# EAGLE library part XC95144XL_TQ144_P (library 00_DatatrakEPROMEmu)
XC95144XL_TQ144 Xilinx XC95144XL CPLD, TQ144 package Symbol pins sorted by pad number. Auto generated by make-symbol-device-package-bsdl.ulp Rev. 44 Source: XC95144XL_TQ144.bsdl
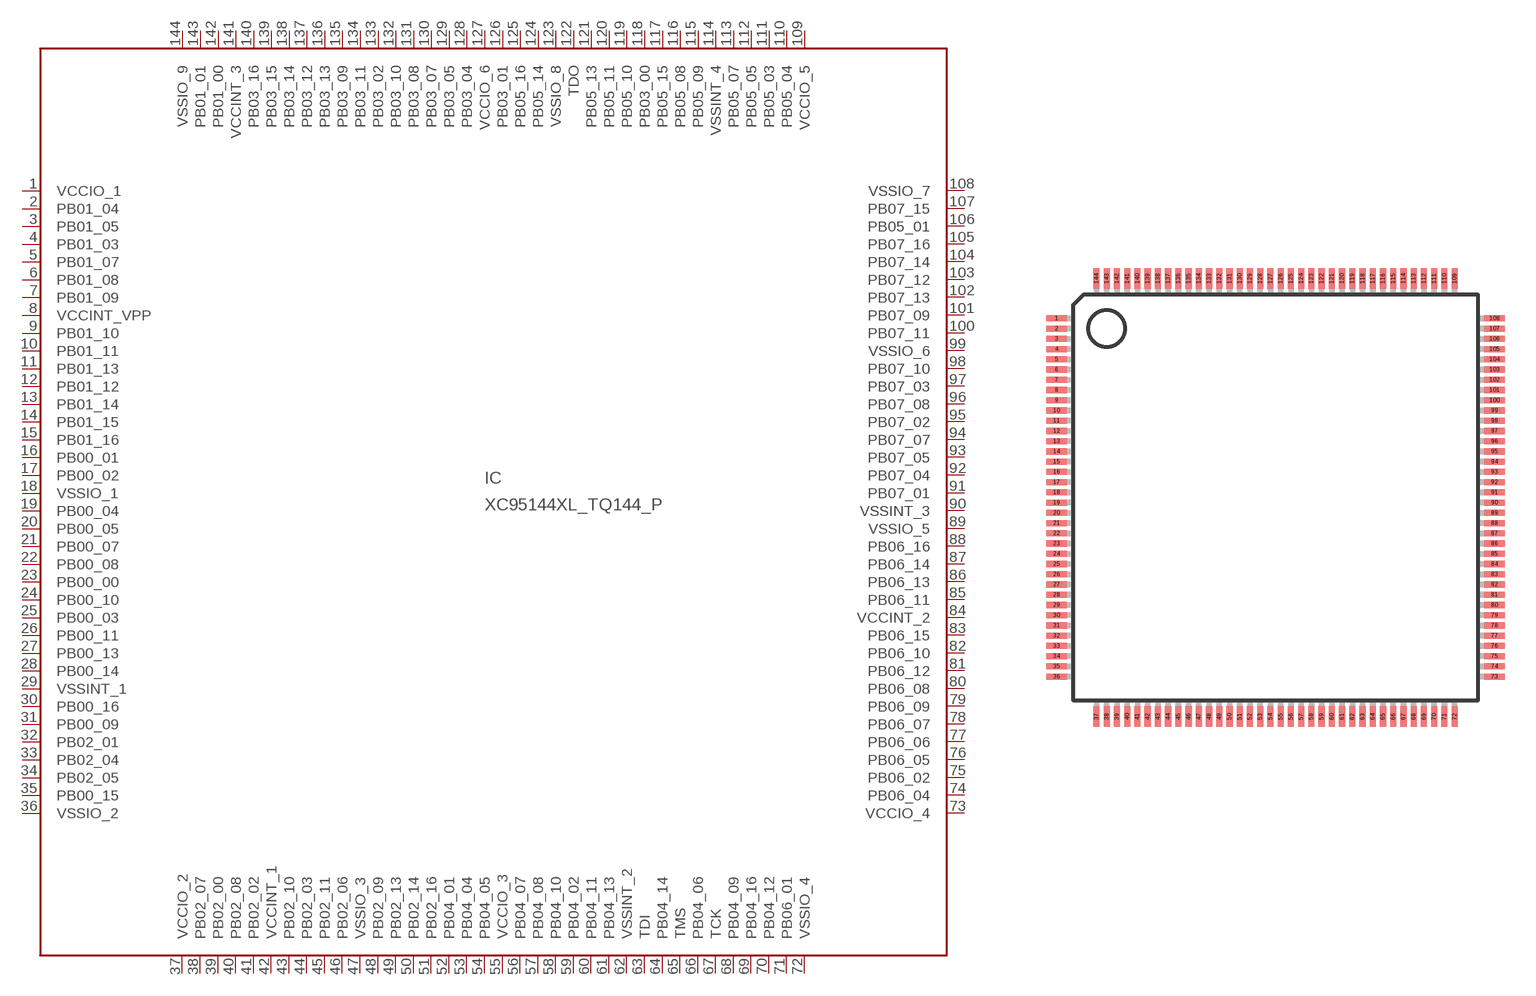
[diagram p3: symbol with the pads of TQ144; footprint TQ144]

Designator prefix IC

## XC95144XL_TQ144_P  [TQ144]
1  VCCIO_1  pas
2  PB01_04
3  PB01_05
4  PB01_03
5  PB01_07
6  PB01_08
7  PB01_09
8  VCCINT_VPP  pas
9  PB01_10
10  PB01_11
11  PB01_13
12  PB01_12
13  PB01_14
14  PB01_15
15  PB01_16
16  PB00_01
17  PB00_02
18  VSSIO_1  pas
19  PB00_04
20  PB00_05
21  PB00_07
22  PB00_08
23  PB00_00
24  PB00_10
25  PB00_03
26  PB00_11
27  PB00_13
28  PB00_14
29  VSSINT_1  pas
30  PB00_16
31  PB00_09
32  PB02_01
33  PB02_04
34  PB02_05
35  PB00_15
36  VSSIO_2  pas
37  VCCIO_2  pas
38  PB02_07
39  PB02_00
40  PB02_08
41  PB02_02
42  VCCINT_1  pas
43  PB02_10
44  PB02_03
45  PB02_11
46  PB02_06
47  VSSIO_3  pas
48  PB02_09
49  PB02_13
50  PB02_14
51  PB02_16
52  PB04_01
53  PB04_04
54  PB04_05
55  VCCIO_3  pas
56  PB04_07
57  PB04_08
58  PB04_10
59  PB04_02
60  PB04_11
61  PB04_13
62  VSSINT_2  pas
63  TDI  in
64  PB04_14
65  TMS  in
66  PB04_06
67  TCK  in
68  PB04_09
69  PB04_16
70  PB04_12
71  PB06_01
72  VSSIO_4  pas
73  VCCIO_4  pas
74  PB06_04
75  PB06_02
76  PB06_05
77  PB06_06
78  PB06_07
79  PB06_09
80  PB06_08
81  PB06_12
82  PB06_10
83  PB06_15
84  VCCINT_2  pas
85  PB06_11
86  PB06_13
87  PB06_14
88  PB06_16
89  VSSIO_5  pas
90  VSSINT_3  pas
91  PB07_01
92  PB07_04
93  PB07_05
94  PB07_07
95  PB07_02
96  PB07_08
97  PB07_03
98  PB07_10
99  VSSIO_6  pas
100  PB07_11
101  PB07_09
102  PB07_13
103  PB07_12
104  PB07_14
105  PB07_16
106  PB05_01
107  PB07_15
108  VSSIO_7  pas
109  VCCIO_5  pas
110  PB05_04
111  PB05_03
112  PB05_05
113  PB05_07
114  VSSINT_4  pas
115  PB05_09
116  PB05_08
117  PB05_15
118  PB03_00
119  PB05_10
120  PB05_11
121  PB05_13
122  TDO  out
123  VSSIO_8  pas
124  PB05_14
125  PB05_16
126  PB03_01
127  VCCIO_6  pas
128  PB03_04
129  PB03_05
130  PB03_07
131  PB03_08
132  PB03_10
133  PB03_02
134  PB03_11
135  PB03_09
136  PB03_13
137  PB03_12
138  PB03_14
139  PB03_15
140  PB03_16
141  VCCINT_3  pas
142  PB01_00
143  PB01_01
144  VSSIO_9  pas

## Footprint TQ144 (pad centres in mm)
TQ144 Auto generated by make-symbol-device-package-bsdl.ulp Rev. 26 Source: xcv100_tq144_1532.bsd; tq144.pdf
smd 1 x 0.3: 1 -10.7,8.75; 2 -10.7,8.25; 3 -10.7,7.75; 4 -10.7,7.25; 5 -10.7,6.75; 6 -10.7,6.25; 7 -10.7,5.75; 8 -10.7,5.25; 9 -10.7,4.75; 10 -10.7,4.25; 11 -10.7,3.75; 12 -10.7,3.25; 13 -10.7,2.75; 14 -10.7,2.25; 15 -10.7,1.75; 16 -10.7,1.25; 17 -10.7,0.75; 18 -10.7,0.25; 19 -10.7,-0.25; 20 -10.7,-0.75; 21 -10.7,-1.25; 22 -10.7,-1.75; 23 -10.7,-2.25; 24 -10.7,-2.75; 25 -10.7,-3.25; 26 -10.7,-3.75; 27 -10.7,-4.25; 28 -10.7,-4.75; 29 -10.7,-5.25; 30 -10.7,-5.75; 31 -10.7,-6.25; 32 -10.7,-6.75; 33 -10.7,-7.25; 34 -10.7,-7.75; 35 -10.7,-8.25; 36 -10.7,-8.75; 73 10.7,-8.75; 74 10.7,-8.25; 75 10.7,-7.75; 76 10.7,-7.25; 77 10.7,-6.75; 78 10.7,-6.25; 79 10.7,-5.75; 80 10.7,-5.25; 81 10.7,-4.75; 82 10.7,-4.25; 83 10.7,-3.75; 84 10.7,-3.25; 85 10.7,-2.75; 86 10.7,-2.25; 87 10.7,-1.75; 88 10.7,-1.25; 89 10.7,-0.75; 90 10.7,-0.25; 91 10.7,0.25; 92 10.7,0.75; 93 10.7,1.25; 94 10.7,1.75; 95 10.7,2.25; 96 10.7,2.75; 97 10.7,3.25; 98 10.7,3.75; 99 10.7,4.25; 100 10.7,4.75; 101 10.7,5.25; 102 10.7,5.75; 103 10.7,6.25; 104 10.7,6.75; 105 10.7,7.25; 106 10.7,7.75; 107 10.7,8.25; 108 10.7,8.75
smd 0.3 x 1: 37 -8.75,-10.7; 38 -8.25,-10.7; 39 -7.75,-10.7; 40 -7.25,-10.7; 41 -6.75,-10.7; 42 -6.25,-10.7; 43 -5.75,-10.7; 44 -5.25,-10.7; 45 -4.75,-10.7; 46 -4.25,-10.7; 47 -3.75,-10.7; 48 -3.25,-10.7; 49 -2.75,-10.7; 50 -2.25,-10.7; 51 -1.75,-10.7; 52 -1.25,-10.7; 53 -0.75,-10.7; 54 -0.25,-10.7; 55 0.25,-10.7; 56 0.75,-10.7; 57 1.25,-10.7; 58 1.75,-10.7; 59 2.25,-10.7; 60 2.75,-10.7; 61 3.25,-10.7; 62 3.75,-10.7; 63 4.25,-10.7; 64 4.75,-10.7; 65 5.25,-10.7; 66 5.75,-10.7; 67 6.25,-10.7; 68 6.75,-10.7; 69 7.25,-10.7; 70 7.75,-10.7; 71 8.25,-10.7; 72 8.75,-10.7; 109 8.75,10.7; 110 8.25,10.7; 111 7.75,10.7; 112 7.25,10.7; 113 6.75,10.7; 114 6.25,10.7; 115 5.75,10.7; 116 5.25,10.7; 117 4.75,10.7; 118 4.25,10.7; 119 3.75,10.7; 120 3.25,10.7; 121 2.75,10.7; 122 2.25,10.7; 123 1.75,10.7; 124 1.25,10.7; 125 0.75,10.7; 126 0.25,10.7; 127 -0.25,10.7; 128 -0.75,10.7; 129 -1.25,10.7; 130 -1.75,10.7; 131 -2.25,10.7; 132 -2.75,10.7; 133 -3.25,10.7; 134 -3.75,10.7; 135 -4.25,10.7; 136 -4.75,10.7; 137 -5.25,10.7; 138 -5.75,10.7; 139 -6.25,10.7; 140 -6.75,10.7; 141 -7.25,10.7; 142 -7.75,10.7; 143 -8.25,10.7; 144 -8.75,10.7